# Altium footprint library fuses.PcbLib: 2 footprints
Each footprint in its own frame and in the unit in brackets; x right, y up, seen from the top. Pads: shape width x height; smd on the part's side, far side on the other; paste and mask are expansions set on the pad; w line width, h text height; cw(c..) or ccw(c..) is an arc to the next point about the centre after c.
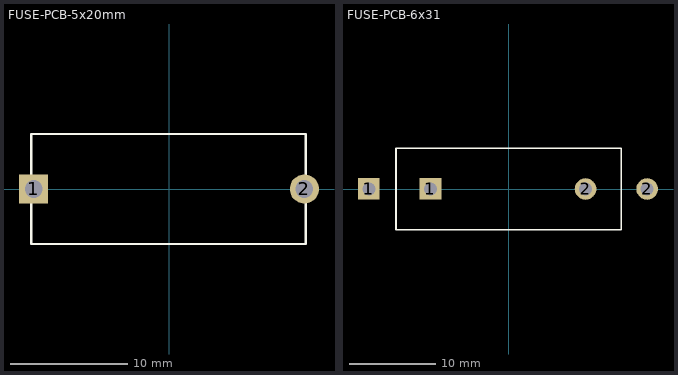
[diagram p0: the footprints below, top view; thin cyan lines are the x and y axes]

## FUSE-PCB-5x20mm [mm] "Thru-Hole; 2 Leads"
height 10
pads (2):
  rect 2.5x2.5 hole 1.5: 1(-11.603,0)
  round 2.5 hole 1.5: 2(11.557,0)
Top Overlay:
  lines w0.2: -11.811,-4.699 -11.811,4.699 11.684,4.699 11.684,-4.699 -11.811,-4.699
3D body: height 13.44, standoff -5.4, extent -11.603,-4.5 11.557,4.5

## FUSE-PCB-6x31 [mm] "Thru-Hole; 2 Leads"
height 10
pads (4):
  rect 2.5x2.5 hole 1.5: 1(-16.129,0.017) 1(-9.017,0.017)
  round 2.5 hole 1.5: 2(8.888,0) 2(16,0)
Top Overlay:
  lines w0.2: -13,-4.699 -13,4.699 ; -12.954,-4.699 12.954,-4.699 ; -12.954,4.699 12.954,4.699 ; 13,-4.699 13,4.699
3D body: height 11.67, standoff -2.56, extent 8.888,-3.445 16,3.446
3D body: height 11.67, standoff -2.56, extent -16.129,-3.429 -9.017,3.462